# Altium schematic symbol library Header 2X50.Schlib: 1 symbol
Pins are listed as number, name and electrical type; pins without a type are passive.

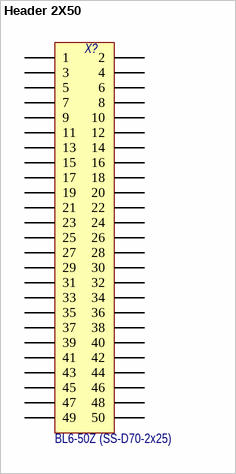
[diagram p0: symbol Header 2X50]

## Header 2X50
designator X?  Наименование: BL6-50Z (SS-D70-2x25)  (hidden comment: Header 2X50)
Header, 50-Pin, Dual row; Потребление, Вт: 0,0; Назначение: Header, 50-Pin, Dual row
footprint PBD-50-narrow
pins: 1, 2, 3, 4, 5, 6, 7, 8, 9, 10, 11, 12, 13, 14, 15, 16, 17, 18, 19, 20, 21, 22, 23, 24, 25, 26, 27, 28, 29, 30, 31, 32, 33, 34, 35, 36, 37, 38, 39, 40, 41, 42, 43, 44, 45, 46, 47, 48, 49, 50